# Altium schematic symbol library BLM18PG471SN1D.SchLib: 1 symbol
Pins are listed as number, name and electrical type; pins without a type are passive.

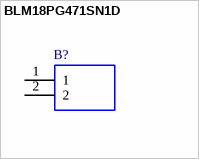
[diagram p0: symbol BLM18PG471SN1D]

## BLM18PG471SN1D
designator B?
0603 Ferrite Bead,470R,25%,1A,R2; Manufacturer_Name: Murata Electronics; Geometry.Height: 0.95mm; Manufacturer_Part_Number: BLM18PG471SN1D; Mouser Part Number: 81-BLM18PG471SN1D; Mouser Price/Stock: https://www.mouser.co.uk/ProductDetail/Murata-Electronics/BLM18PG471SN1D?qs=EYzdjubb4S%2FN1Ip39GrHyg%3D%3D; Arrow Part Number: BLM18PG471SN1D; Arrow Price/Stock: https://www.arrow.com/en/products/blm18pg471sn1d/murata-manufacturing?region=nac; Mouser Testing Part Number: *; Mouser Testing Price/Stock: *; Datasheet Link: http://www.murata.com/~/media/webrenewal/support/library/catalog/products/emc/emifil/c31e.ashx?la=en-gb
footprint BLM18EG121SH1D
pins: 1, 2